# Altium schematic symbol library WE-CBF_1806.SchLib: 8 symbols
Pins are listed as number, name and electrical type; pins without a type are passive.

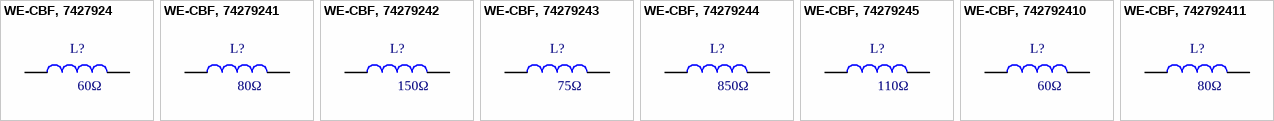
[diagram p0: symbols WE-CBF, 7427924 to WE-CBF, 742792411]

## WE-CBF, 7427924
designator L?, comment 60Ω
WE-CBF SMD EMI Suppression Ferrite Bead, 1806, 60Ω; PartNumber: 7427924; Type: High Speed; PublishedDate: Aug 2016; Publisher: Wurth Elektronik; ComponentLink1Description: Manufacturer; ComponentLink1URL: http://www.we-online.de; ComponentLink2Description: Datasheet; ComponentLink2URL: http://katalog.we-online.de/pbs/datasheet/7427924.pdf; Value: 60Ω; Size: 1806
footprint WE-CBF_1806_High Speed
pins: 1, 2

## WE-CBF, 74279241
designator L?, comment 80Ω
WE-CBF SMD EMI Suppression Ferrite Bead, 1806, 80Ω; PartNumber: 74279241; Type: High Speed; PublishedDate: Aug 2016; Publisher: Wurth Elektronik; ComponentLink1Description: Manufacturer; ComponentLink1URL: http://www.we-online.de; ComponentLink2Description: Datasheet; ComponentLink2URL: http://katalog.we-online.de/pbs/datasheet/74279241.pdf; Value: 80Ω; Size: 1806
footprint WE-CBF_1806_High Speed
pins: 1, 2

## WE-CBF, 74279242
designator L?, comment 150Ω
WE-CBF SMD EMI Suppression Ferrite Bead, 1806, 150Ω; PartNumber: 74279242; Type: Wide Band; PublishedDate: Aug 2016; Publisher: Wurth Elektronik; ComponentLink1Description: Manufacturer; ComponentLink1URL: http://www.we-online.de; ComponentLink2Description: Datasheet; ComponentLink2URL: http://katalog.we-online.de/pbs/datasheet/74279242.pdf; Value: 150Ω; Size: 1806
footprint WE-CBF_1806_Wide Band
pins: 1, 2

## WE-CBF, 74279243
designator L?, comment 75Ω
WE-CBF SMD EMI Suppression Ferrite Bead, 1806, 75Ω; PartNumber: 74279243; Type: High Current; PublishedDate: Aug 2016; Publisher: Wurth Elektronik; ComponentLink1Description: Manufacturer; ComponentLink1URL: http://www.we-online.de; ComponentLink2Description: Datasheet; ComponentLink2URL: http://katalog.we-online.de/pbs/datasheet/74279243.pdf; Value: 75Ω; Size: 1806
footprint WE-CBF_1806_High Current
pins: 1, 2

## WE-CBF, 74279244
designator L?, comment 850Ω
WE-CBF SMD EMI Suppression Ferrite Bead, 1806, 850Ω; PartNumber: 74279244; Type: High Current; PublishedDate: Aug 2016; Publisher: Wurth Elektronik; ComponentLink1Description: Manufacturer; ComponentLink1URL: http://www.we-online.de; ComponentLink2Description: Datasheet; ComponentLink2URL: http://katalog.we-online.de/pbs/datasheet/74279244.pdf; Value: 850Ω; Size: 1806
footprint WE-CBF_1806_High Current
pins: 1, 2

## WE-CBF, 74279245
designator L?, comment 110Ω
WE-CBF SMD EMI Suppression Ferrite Bead, 1806, 110Ω; PartNumber: 74279245; Type: High Current; PublishedDate: Aug 2016; Publisher: Wurth Elektronik; ComponentLink1Description: Manufacturer; ComponentLink1URL: http://www.we-online.de; ComponentLink2Description: Datasheet; ComponentLink2URL: http://katalog.we-online.de/pbs/datasheet/74279245.pdf; Value: 110Ω; Size: 1806
footprint WE-CBF_1806_High Current
pins: 1, 2

## WE-CBF, 742792410
designator L?, comment 60Ω
WE-CBF SMD EMI Suppression Ferrite Bead, 1806, 60Ω; PartNumber: 742792410; Type: High Current; PublishedDate: Aug 2016; Publisher: Wurth Elektronik; ComponentLink1Description: Manufacturer; ComponentLink1URL: http://www.we-online.de; ComponentLink2Description: Datasheet; ComponentLink2URL: http://katalog.we-online.de/pbs/datasheet/742792410.pdf; Value: 60Ω; Size: 1806
footprint WE-CBF_1806_High Current
pins: 1, 2

## WE-CBF, 742792411
designator L?, comment 80Ω
WE-CBF SMD EMI Suppression Ferrite Bead, 1806, 80Ω; PartNumber: 742792411; Type: High Current; PublishedDate: Aug 2016; Publisher: Wurth Elektronik; ComponentLink1Description: Manufacturer; ComponentLink1URL: http://www.we-online.de; ComponentLink2Description: Datasheet; ComponentLink2URL: http://katalog.we-online.de/pbs/datasheet/742792411.pdf; Value: 80Ω; Size: 1806
footprint WE-CBF_1806_High Current
pins: 1, 2